# EAGLE library part AVR_ICSP (library serialcouple)
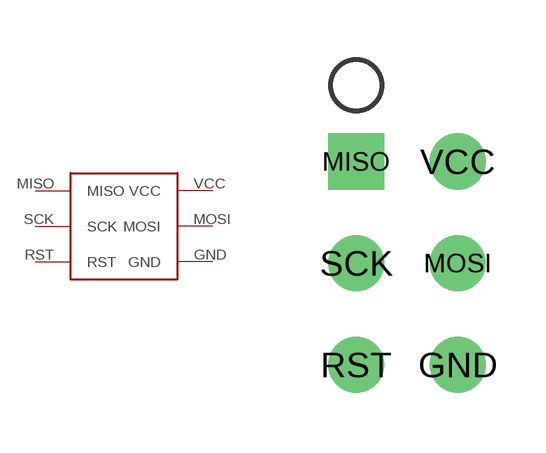
[diagram p0: symbol with the pads of AVR_ICSP; footprint AVR_ICSP]

Designator prefix -

## AVR_ICSP  [AVR_ICSP]
GND  GND
MISO  MISO
MOSI  MOSI
RST  RST
SCK  SCK
VCC  VCC

## Footprint AVR_ICSP (pad centres in mm)
drill 0.9 round: GND 1.27,-2.54; MOSI 1.27,0; RST -1.27,-2.54; SCK -1.27,0; VCC 1.27,2.54
drill 0.9 square: MISO -1.27,2.54